# EAGLE library part E22 (library ebyte)
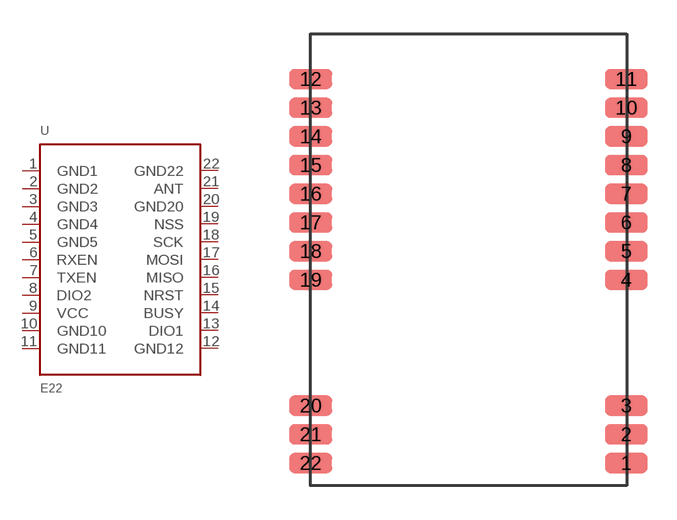
[diagram p0: symbol with the pads of E22; footprint E22]

Designator prefix U

## E22-400M22S  [E22]
1  GND1  pwr
2  GND2  pwr
3  GND3  pwr
4  GND4  pwr
5  GND5  pwr
6  RXEN  in
7  TXEN  in
8  DIO2
9  VCC  pwr
10  GND10  pwr
11  GND11  pwr
12  GND12  pwr
13  DIO1
14  BUSY  out
15  NRST  in
16  MISO  out
17  MOSI  in
18  SCK  in
19  NSS  in
20  GND20  pwr
21  ANT
22  GND22  pwr

## E22-900M22S  [E22]
Pads as for E22

## Footprint E22 (pad centres in mm)
SX1262/SX1268 Wireless Module
smd 1.905 x 0.9: 1 6.985,-9; 2 6.985,-7.73; 3 6.985,-6.46; 4 6.985,-0.89; 5 6.985,0.38; 6 6.985,1.65; 7 6.985,2.92; 8 6.985,4.19; 9 6.985,5.46; 10 6.985,6.73; 11 6.985,8; 12 -6.985,8; 13 -6.985,6.73; 14 -6.985,5.46; 15 -6.985,4.19; 16 -6.985,2.92; 17 -6.985,1.65; 18 -6.985,0.38; 19 -6.985,-0.89; 20 -6.985,-6.46; 21 -6.985,-7.73; 22 -6.985,-9